# EAGLE library part AD9248BSTZ (library Zoli2_2015-02-22)
High speed dual 14-bit ADC
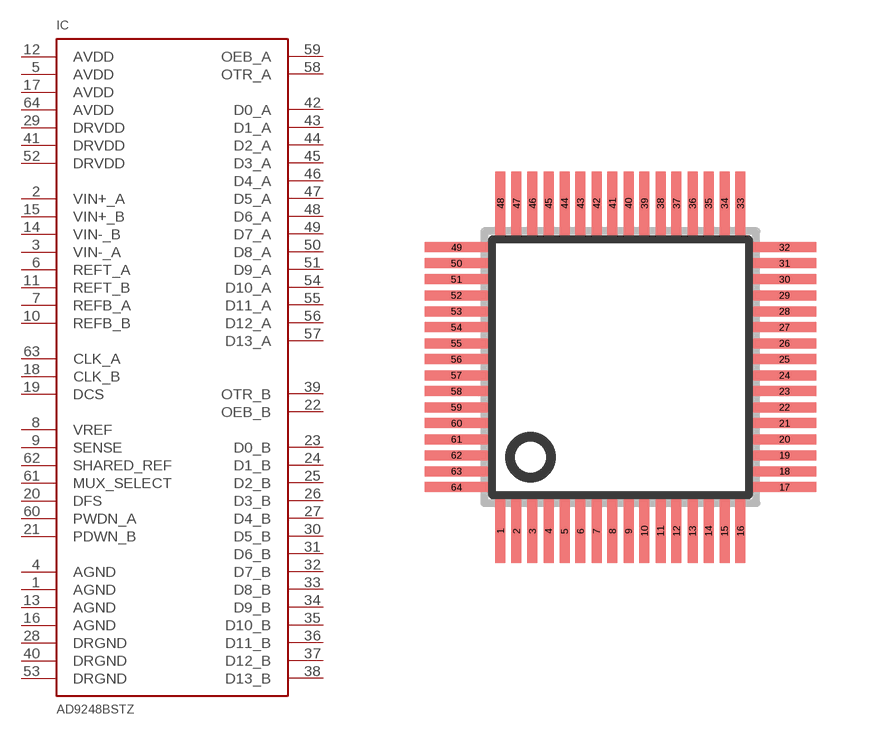
[diagram p20: symbol with the pads of SQFP-S-7X7-64; footprint SQFP-S-7X7-64]

Designator prefix IC

## AD9248BSTZ  [SQFP-S-7X7-64]
1  AGND  sup
2  VIN+_A  in
3  VIN-_A  in
4  AGND   sup
5  AVDD  sup
6  REFT_A
7  REFB_A
8  VREF
9  SENSE
10  REFB_B
11  REFT_B
12  AVDD   sup
13  AGND    sup
14  VIN-_B  in
15  VIN+_B  in
16  AGND     sup
17  AVDD    sup
18  CLK_B  in
19  DCS  in
20  DFS  in
21  PDWN_B  in
22  OEB_B  in
23  D0_B  out
24  D1_B  out
25  D2_B  out
26  D3_B  out
27  D4_B  out
28  DRGND  sup
29  DRVDD  sup
30  D5_B  out
31  D6_B  out
32  D7_B  out
33  D8_B  out
34  D9_B  out
35  D10_B  out
36  D11_B  out
37  D12_B  out
38  D13_B  out
39  OTR_B  out
40  DRGND   sup
41  DRVDD   sup
42  D0_A  out
43  D1_A  out
44  D2_A  out
45  D3_A  out
46  D4_A  out
47  D5_A  out
48  D6_A  out
49  D7_A  out
50  D8_A  out
51  D9_A  out
52  DRVDD    sup
53  DRGND    sup
54  D10_A  out
55  D11_A  out
56  D12_A  out
57  D13_A  out
58  OTR_A  out
59  OEB_A  in
60  PWDN_A  in
61  MUX_SELECT  in
62  SHARED_REF  in
63  CLK_A  in
64  AVDD     sup

## Footprint SQFP-S-7X7-64 (pad centres in mm)
QFP64 shrink quad flat pack, square
smd 0.25 x 1.6: 1 -3,-4.1; 2 -2.6,-4.1; 3 -2.2,-4.1; 4 -1.8,-4.1; 5 -1.4,-4.1; 6 -1,-4.1; 7 -0.6,-4.1; 8 -0.2,-4.1; 9 0.2,-4.1; 10 0.6,-4.1; 11 1,-4.1; 12 1.4,-4.1; 13 1.8,-4.1; 14 2.2,-4.1; 15 2.6,-4.1; 16 3,-4.1; 33 3,4.1; 34 2.6,4.1; 35 2.2,4.1; 36 1.8,4.1; 37 1.4,4.1; 38 1,4.1; 39 0.6,4.1; 40 0.2,4.1; 41 -0.2,4.1; 42 -0.6,4.1; 43 -1,4.1; 44 -1.4,4.1; 45 -1.8,4.1; 46 -2.2,4.1; 47 -2.6,4.1; 48 -3,4.1
smd 1.6 x 0.25: 17 4.1,-3; 18 4.1,-2.6; 19 4.1,-2.2; 20 4.1,-1.8; 21 4.1,-1.4; 22 4.1,-1; 23 4.1,-0.6; 24 4.1,-0.2; 25 4.1,0.2; 26 4.1,0.6; 27 4.1,1; 28 4.1,1.4; 29 4.1,1.8; 30 4.1,2.2; 31 4.1,2.6; 32 4.1,3; 49 -4.1,3; 50 -4.1,2.6; 51 -4.1,2.2; 52 -4.1,1.8; 53 -4.1,1.4; 54 -4.1,1; 55 -4.1,0.6; 56 -4.1,0.2; 57 -4.1,-0.2; 58 -4.1,-0.6; 59 -4.1,-1; 60 -4.1,-1.4; 61 -4.1,-1.8; 62 -4.1,-2.2; 63 -4.1,-2.6; 64 -4.1,-3